# Altium schematic symbol library MotorDriverICs.SchLib: 3 symbols
Pins are listed as number, name and electrical type; pins without a type are passive.

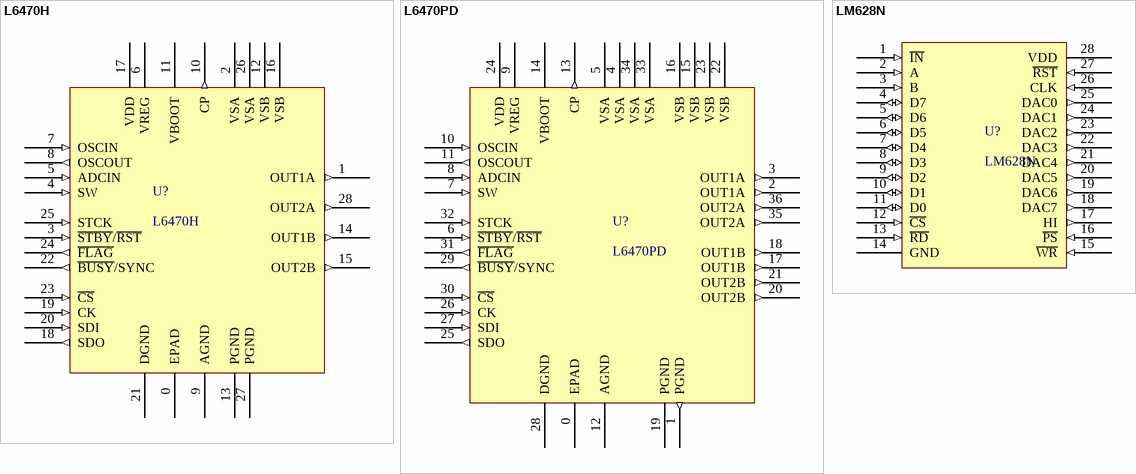
[diagram p0: symbols L6470H to LM628N]

## L6470H
designator U?
footprint LC-HTSSOP-28
pins: 0 EPAD (power), 1 OUT1A (out), 2 VSA (power), 3 ~{STBY}/~{RST} (in), 4 SW (in), 5 ADCIN (in), 6 VREG (power), 7 OSCIN (in), 8 OSCOUT (out), 9 AGND (power), 10 CP (out), 11 VBOOT (power), 12 VSB (power), 13 PGND (power), 14 OUT1B (out), 15 OUT2B (out), 16 VSB (power), 17 VDD (power), 18 SDO (out), 19 CK (in), 20 SDI (in), 21 DGND (power), 22 ~{BUSY}/SYNC (out) "OpenDrain", 23 ~{CS} (in), 24 ~{FLAG} (out), 25 STCK (in), 26 VSA (power), 27 PGND (power), 28 OUT2A (out)

## L6470PD
designator U?
footprint PowerSO-36
pins: 0 EPAD (power), 1 PGND (out), 2 OUT1A (out), 3 OUT1A (out), 4 VSA (power), 5 VSA (power), 6 ~{STBY}/~{RST} (in), 7 SW (in), 8 ADCIN (in), 9 VREG (power), 10 OSCIN (in), 11 OSCOUT (out), 12 AGND (power), 13 CP (out), 14 VBOOT (power), 15 VSB (power), 16 VSB (power), 17 OUT1B (out), 18 OUT1B (out), 19 PGND (power), 20 OUT2B (out), 21 OUT2B (out), 22 VSB (power), 23 VSB (power), 24 VDD (power), 25 SDO (out), 26 CK (in), 27 SDI (in), 28 DGND (power), 29 ~{BUSY}/SYNC (out) "OpenDrain", 30 ~{CS} (in), 31 ~{FLAG} (out), 32 STCK (in), 33 VSA (power), 34 VSA (power), 35 OUT2A (out), 36 OUT2A (out)

## LM628N
designator U?
footprint DIP28
pins: 1 ~{IN} (in), 2 A (in), 3 B (in), 4 D7 (io), 5 D6 (io), 6 D5 (io), 7 D4 (io), 8 D3 (io), 9 D2 (io), 10 D1 (io), 11 D0 (io), 12 ~{CS} (in), 13 ~{RD} (in), 14 GND (power), 15 ~{WR} (in), 16 ~{PS} (in), 17 HI (out), 18 DAC7 (out), 19 DAC6 (out), 20 DAC5 (out), 21 DAC4 (out), 22 DAC3 (out), 23 DAC2 (out), 24 DAC1 (out), 25 DAC0 (out), 26 CLK (in), 27 ~{RST} (in), 28 VDD (power)